# EAGLE library part 615016338621 (library EAGLE-INPUT_OUTPUT_CONNECTORS-rev17c)
WR-MJ Horizontal Shielded with LED 8P8C Modular Jack Tab Up + Dual USB Stacked, 8 Pins=>Code : Con_I-O_MJ-H_Shielded_Up_615016338621 <http://katalog.we-online.de/media/images/eican/Con_I-O_MJ-H_Shielded_Up_615016338621_pf2.jpg> Details see: http://katalog.we-online.de/en/em/MJ_TAB_UP_W_LED_8P8C_DUAL_USB Created 2014-07-10, Karrer Zheng 2014 (C) Würth Elektronik
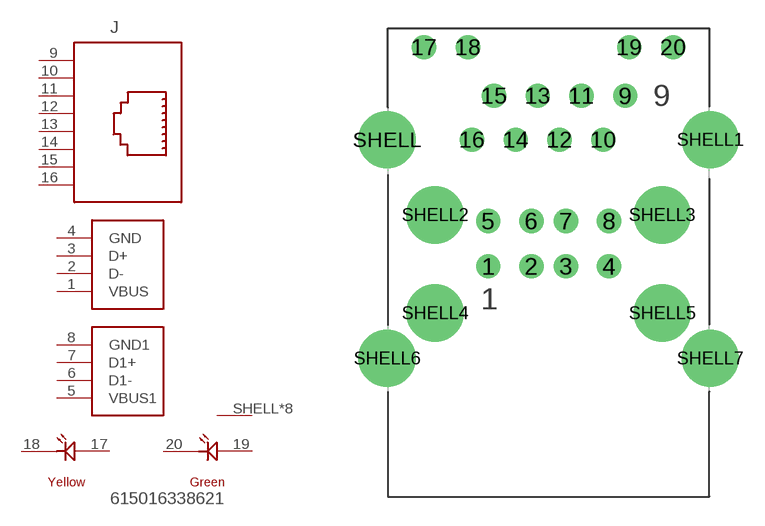
[diagram p127: symbol with the pads of 615016338621; footprint 615016338621]

Designator prefix J

## 615016338621  [615016338621]
1  VBUS  pas
2  D-  pas
3  D+  pas
4  GND  pas
5  VBUS1  pas
6  D1-  pas
7  D1+  pas
8  GND1  pas
9  9  pas
10  10  pas
11  11  pas
12  12  pas
13  13  pas
14  14  pas
15  15  pas
16  16  pas
17  17  pas
18  18  pas
19  19  pas
20  20  pas
SHELL  SHIELD  pas
SHELL1  SHIELD  pas
SHELL2  SHIELD  pas
SHELL3  SHIELD  pas
SHELL4  SHIELD  pas
SHELL5  SHIELD  pas
SHELL6  SHIELD  pas
SHELL7  SHIELD  pas

## Footprint 615016338621 (pad centres in mm)
WR-MJ Horizontal Shielded with LED 8P8C Modular Jack Tab Up + Dual USB Stacked, 8 Pins
drill 0.9: 1 -3.5,2.71; 2 -1,2.71; 3 1,2.71; 4 3.5,2.71; 5 -3.5,5.33; 6 -1,5.33; 7 1,5.33; 8 3.5,5.33; 9 4.43,12.57; 10 3.16,10.03; 11 1.9,12.57; 12 0.63,10.03; 13 -0.63,12.57; 14 -1.9,10.03; 15 -3.16,12.57; 16 -4.43,10.03; 17 -7.205,15.38; 18 -4.665,15.38; 19 4.665,15.38; 20 7.205,15.38
drill 2.3: SHELL -9.35,10.03; SHELL1 9.35,10.03; SHELL2 -6.57,5.68; SHELL3 6.57,5.68; SHELL4 -6.57,0; SHELL5 6.57,0; SHELL6 -9.35,-2.62; SHELL7 9.35,-2.62